# Altium footprint library HDR_1X5_2.54.PcbLib: 1 footprints
Each footprint in its own frame and in the unit in brackets; x right, y up, seen from the top. Pads: shape width x height; smd on the part's side, far side on the other; paste and mask are expansions set on the pad; w line width, h text height; cw(c..) or ccw(c..) is an arc to the next point about the centre after c.
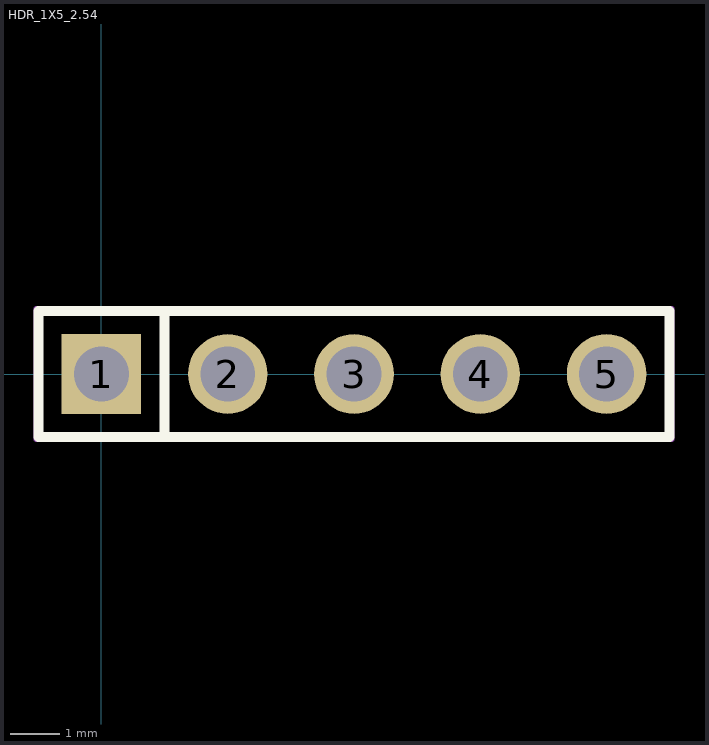
[diagram p0: the footprint, top view; thin cyan lines are the x and y axes]

## HDR_1X5_2.54 [mm] "5 pins, 1 row, straight, gold plating"
height 8.54
pads (5):
  rect 1.6x1.6 hole 1.1: 1(0,0)
  round 1.6 hole 1.1: 2(2.54,0) 3(5.08,0) 4(7.62,0) 5(10.16,0)
Top Overlay:
  lines w0.2: 1.27,-1.27 1.27,1.27 ; -1.27,-1.27 -1.27,1.27 11.43,1.27 11.43,-1.27 -1.27,-1.27
Mechanical 13:
  lines w0.1: -1.27,-1.27 -1.27,1.27 11.43,1.27 11.43,-1.27 -1.27,-1.27
Mechanical 15:
  lines w0.1: -1.32,-1.32 11.48,-1.32 11.48,1.32 -1.32,1.32 -1.32,-1.32
3D body: height 8.54, standoff -3, extent -1.27,-1.27 11.43,1.27